# Altium schematic symbol library Power-DCDC-PW2815.SchLib: 1 symbol
Pins are listed as number, name and electrical type; pins without a type are passive.

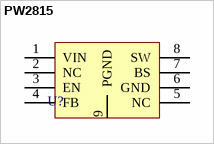
[diagram p0: symbol PW2815]

## PW2815
designator U?
pins: 1 VIN, 2 NC, 3 EN, 4 FB, 5 NC, 6 GND, 7 BS, 8 SW, 9 PGND